# Altium footprint library PCB - CRYSTALS - MICRO CRYSTAL CM8V H0.6mm.PCBLIB: 1 footprints
Each footprint in its own frame and in the unit in brackets; x right, y up, seen from the top. Pads: shape width x height; smd on the part's side, far side on the other; paste and mask are expansions set on the pad; w line width, h text height; cw(c..) or ccw(c..) is an arc to the next point about the centre after c.
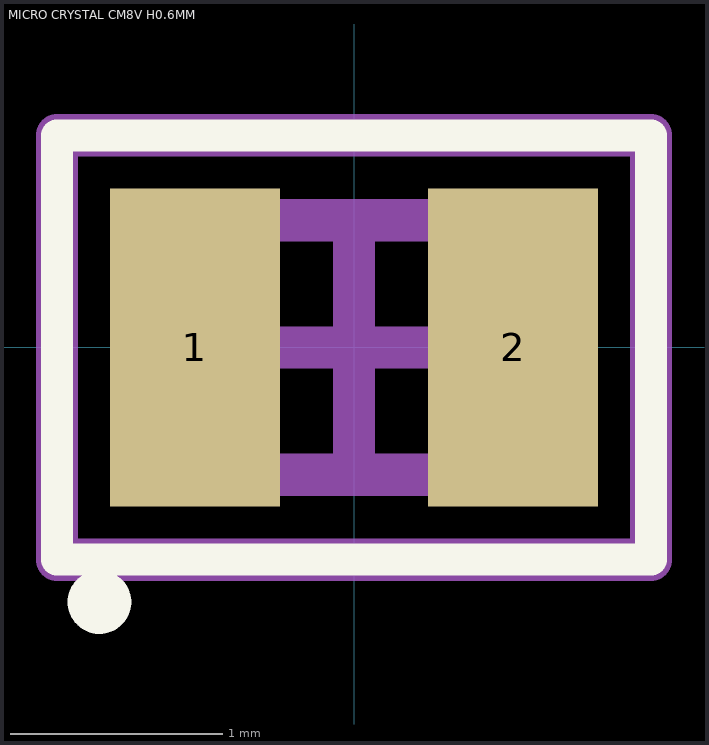
[diagram p0: the footprint, top view; thin cyan lines are the x and y axes]

## MICRO CRYSTAL CM8V H0.6MM [mm] "SMD Crystal 2.0 x 1.2 x 0.6mm"
height 0.6
pads (2):
  rect 0.8x1.5 smd: 1(-0.75,0) 2(0.75,0)
Top Overlay:
  circle w0.2: c-1.2,-1.2 r0.05
  lines w0.15: -1.4,-1 -1.4,1 1.4,1 1.4,-1 -1.4,-1
Top Component Center:
  lines w0.2: -0.5,0 0.5,0 ; 0,-0.5 0,0.5
Top Assembly:
  lines w0.2: -1,-0.6 1,-0.6 1,0.6 -1,0.6 -1,-0.6
Top Courtyard:
  lines w0.2: -1.4,-1 -1.4,1 1.4,1 1.4,-1 -1.4,-1
3D body "MICRO CRYSTAL CM8V-T1A.step": height 0.6, standoff 0, extent -1,-0.6 1,0.6